# EAGLE library part FINGER-HOLE-1.27MM-10P (library RediSem_New)
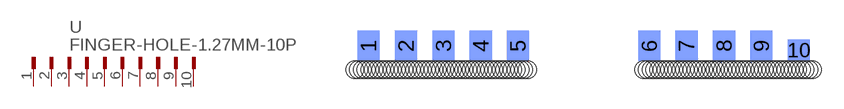
[diagram p0: symbol with the pads of FINGER-HOLE-10P-SHORT; footprint FINGER-HOLE-10P-SHORT]

Designator prefix -

## FINGER-HOLE-1.27MM-10P  [FINGER-HOLE-10P-SHORT]
1  1  pas
2  2  pas
3  3  pas
4  4  pas
5  5  pas
6  6  pas
7  7  pas
8  8  pas
9  9  pas
10  10  pas

## Footprint FINGER-HOLE-10P-SHORT (pad centres in mm)
smd 1.5 x 2.084 bottom: 1 -14.57,1.617; 2 -12.03,1.617; 3 -9.49,1.617; 4 -6.966,1.617; 5 -4.445,1.617; 6 4.445,1.617; 7 6.966,1.617; 8 9.506,1.617; 9 12.03,1.617
smd 1.5 x 1.484 bottom: 10 14.57,1.317
hole 1.2 at -12.192,0
hole 1.2 at -11.938,0
hole 1.2 at -11.684,0
hole 1.2 at -11.43,0
hole 1.2 at -11.176,0
hole 1.2 at -10.922,0
hole 1.2 at -10.668,0
hole 1.2 at -10.414,0
hole 1.2 at -10.16,0
hole 1.2 at -9.906,0
hole 1.2 at -9.652,0
hole 1.2 at -9.398,0
hole 1.2 at -9.144,0
hole 1.2 at -8.89,0
hole 1.2 at -8.636,0
hole 1.2 at -12.446,0
hole 1.2 at -12.7,0
hole 1.2 at -8.382,0
hole 1.2 at -8.128,0
hole 1.2 at -7.366,0
hole 1.2 at -7.112,0
hole 1.2 at -6.858,0
hole 1.2 at -6.604,0
hole 1.2 at -6.35,0
hole 1.2 at -6.096,0
hole 1.2 at -5.842,0
hole 1.2 at -5.588,0
hole 1.2 at -5.334,0
hole 1.2 at -5.08,0
hole 1.2 at -4.826,0
hole 1.2 at -4.572,0
hole 1.2 at -4.318,0
hole 1.2 at -4.064,0
hole 1.2 at -3.81,0
hole 1.2 at -7.62,0
hole 1.2 at -7.874,0
hole 1.2 at 4.318,0
hole 1.2 at 4.064,0
hole 1.2 at 5.08,0
hole 1.2 at 5.334,0
hole 1.2 at 5.588,0
hole 1.2 at 5.842,0
hole 1.2 at 6.096,0
hole 1.2 at 6.35,0
hole 1.2 at 6.604,0
hole 1.2 at 6.858,0
hole 1.2 at 7.112,0
hole 1.2 at 7.366,0
hole 1.2 at 7.62,0
hole 1.2 at 7.874,0
hole 1.2 at 8.128,0
hole 1.2 at 8.382,0
hole 1.2 at 8.636,0
hole 1.2 at 4.826,0
hole 1.2 at 4.572,0
hole 1.2 at 8.89,0
hole 1.2 at 9.144,0
hole 1.2 at 9.906,0
hole 1.2 at 10.16,0
hole 1.2 at 10.414,0
hole 1.2 at 10.668,0
hole 1.2 at 10.922,0
hole 1.2 at 11.176,0
hole 1.2 at 11.43,0
hole 1.2 at 11.684,0
hole 1.2 at 11.938,0
hole 1.2 at 12.192,0
hole 1.2 at 12.446,0
hole 1.2 at 12.7,0
hole 1.2 at 12.954,0
hole 1.2 at 13.208,0
hole 1.2 at 13.462,0
hole 1.2 at 9.652,0
hole 1.2 at 9.398,0
hole 1.2 at 13.716,0
hole 1.2 at 13.97,0
hole 1.2 at 14.224,0
hole 1.2 at 14.478,0
hole 1.2 at 14.732,0
hole 1.2 at 14.986,0
hole 1.2 at 15.24,0
hole 1.2 at 15.494,0
hole 1.2 at -12.954,0
hole 1.2 at -13.208,0
hole 1.2 at -13.462,0
hole 1.2 at -13.716,0
hole 1.2 at -13.97,0
hole 1.2 at -14.224,0
hole 1.2 at -14.478,0
hole 1.2 at -14.732,0
hole 1.2 at -14.986,0
hole 1.2 at -15.24,0
hole 1.2 at -15.494,0